# Altium footprint library 2410.PcbLib: 1 footprints
Each footprint in its own frame and in the unit in brackets; x right, y up, seen from the top. Pads: shape width x height; smd on the part's side, far side on the other; paste and mask are expansions set on the pad; w line width, h text height; cw(c..) or ccw(c..) is an arc to the next point about the centre after c.
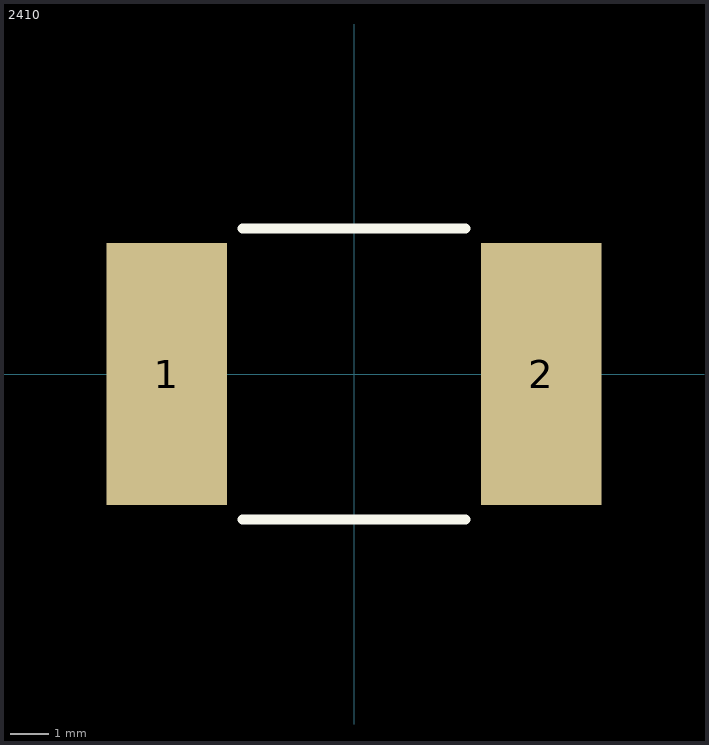
[diagram p0: the footprint, top view; thin cyan lines are the x and y axes]

## 2410 [mil]
pads (2):
  rect 124x270 smd: 1(-193,0) 2(193,0)
Top Overlay:
  lines w10: -115,-150 115,-150 ; -115,150 115,150